# EAGLE library part TLC7524DAC (library jasons_stuff)
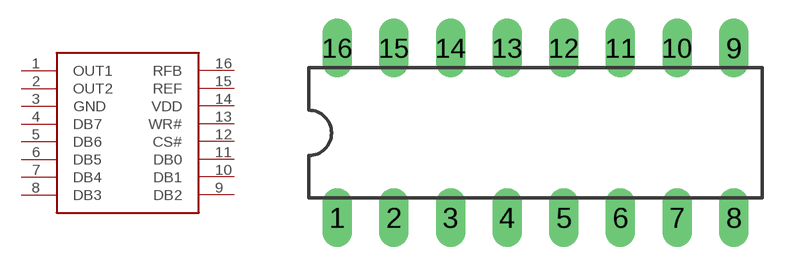
[diagram p17: symbol with the pads of DIL16; footprint DIL16]

Designator prefix -

## TLC7524DACDIL16  [DIL16]
1  OUT1
2  OUT2
3  GND
4  DB7
5  DB6
6  DB5
7  DB4
8  DB3
9  DB2
10  DB1
11  DB0
12  CS#
13  WR#
14  VDD
15  REF
16  RFB

## Footprint DIL16 (pad centres in mm)
Dual In Line Package
drill 0.813 long: 1 -8.89,-3.81; 2 -6.35,-3.81; 3 -3.81,-3.81; 4 -1.27,-3.81; 5 1.27,-3.81; 6 3.81,-3.81; 7 6.35,-3.81; 8 8.89,-3.81; 9 8.89,3.81; 10 6.35,3.81; 11 3.81,3.81; 12 1.27,3.81; 13 -1.27,3.81; 14 -3.81,3.81; 15 -6.35,3.81; 16 -8.89,3.81